# Altium footprint library PCB_PCB恒温加热台 copy_2022-02-27.PcbLib: 26 footprints (part 1 of 2)
Each footprint in its own frame and in the unit in brackets; x right, y up, seen from the top. Pads: shape width x height; smd on the part's side, far side on the other; paste and mask are expansions set on the pad; w line width, h text height; cw(c..) or ccw(c..) is an arc to the next point about the centre after c.
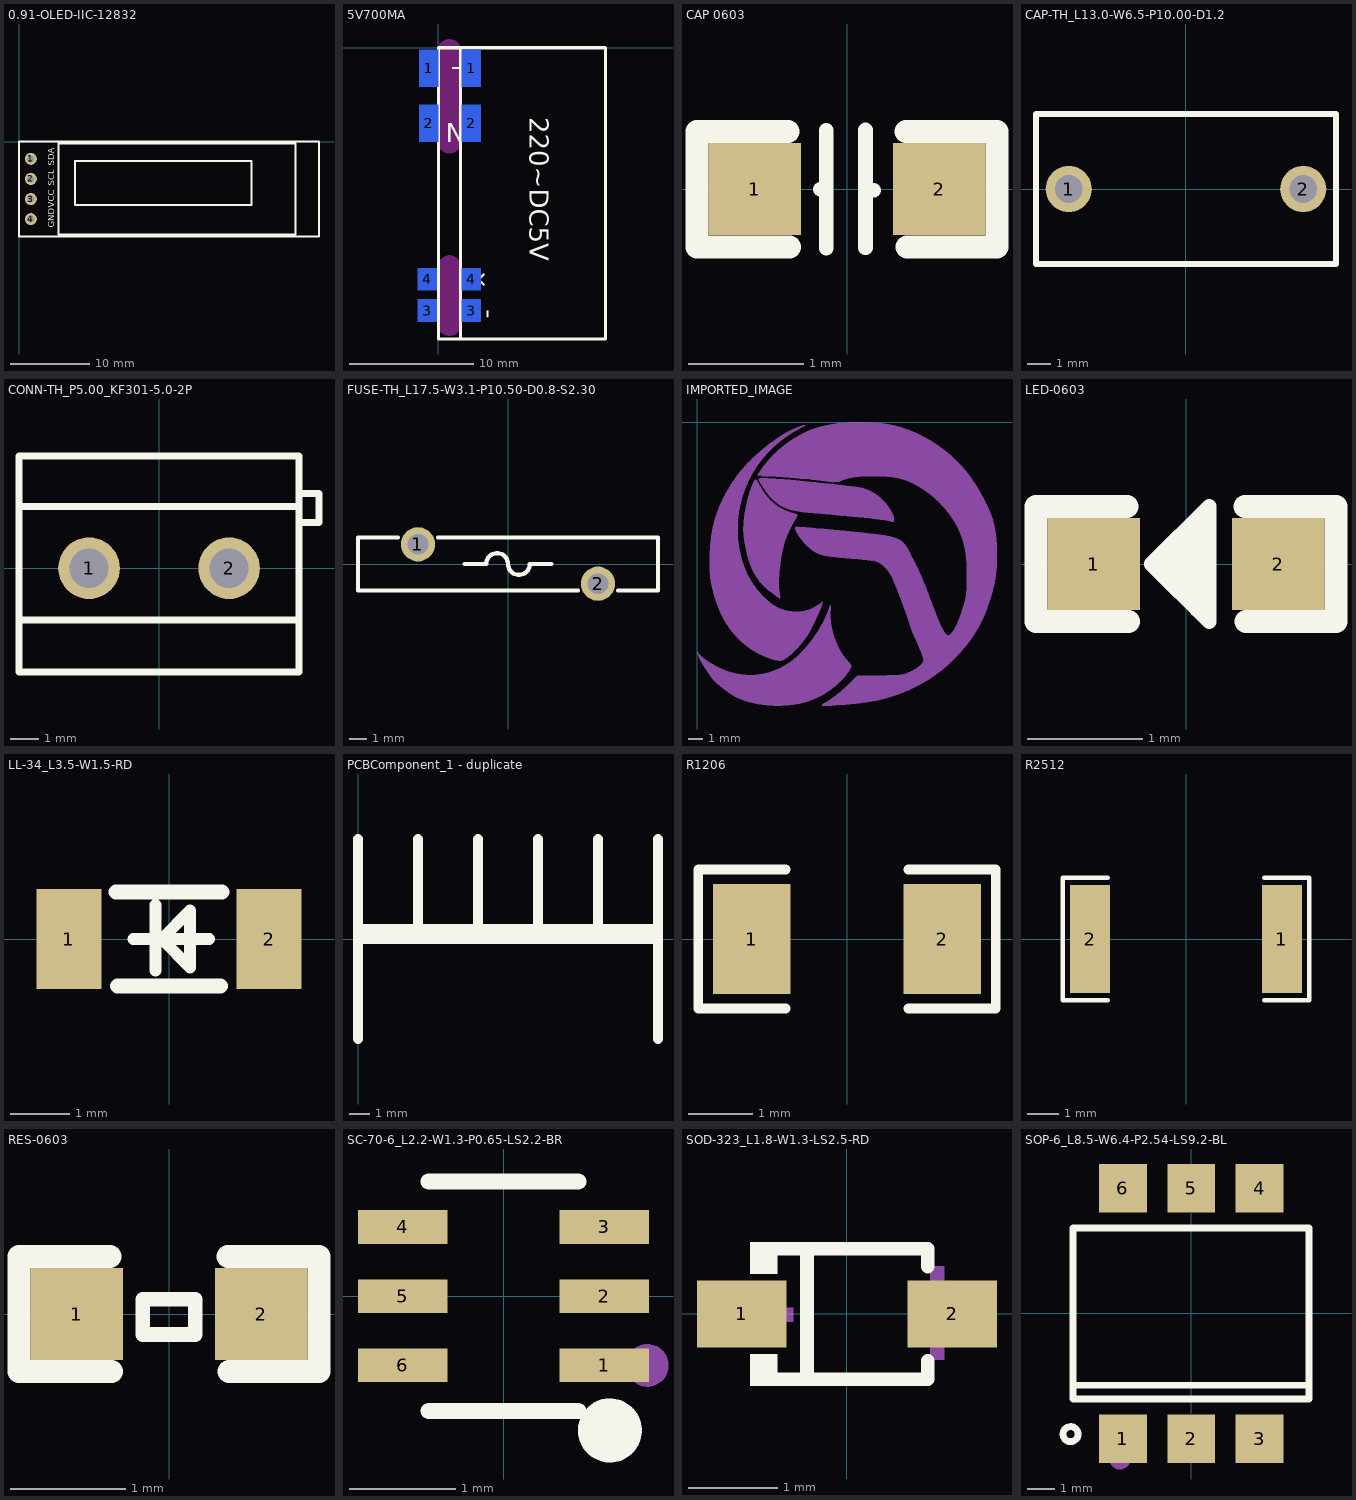
[diagram p0: the footprints below, top view; thin cyan lines are the x and y axes]

## 0.91-OLED-IIC-12832 [mil]
pads (4):
  round 60 hole 36: 1(59.05,-86.22) 2(59.05,-186.22) 3(59.05,-286.22) 4(59.05,-386.22)
Top Overlay:
  lines w10: 0,-472.44 1496.06,-472.44 1496.06,0 0,0 0,-472.44 ; 196.85,-462.6 1377.95,-462.6 1377.95,-9.84 196.85,-9.84 196.85,-462.6 ; 279.53,-315.36 1160.63,-315.36 1160.63,-95.67 279.53,-95.67 279.53,-315.36
  text "SDA" at 175.75,-120 h31.5
  text "SCL" at 175.75,-220 h31.5
  text "VCC" at 175.75,-330 h31.5
  text "GND" at 175.75,-430 h31.5

## 5V700MA [mil]
pads (8):
  rect 60x118.11 smd far side: 1(-30,-65) 1(105,-65) 2(-30,-240) 2(105,-240)
  rect 60x70.87 smd far side: 3(-35,-835) 3(105,-835) 4(-35,-735) 4(105,-735)
Top Overlay:
  lines w10: 0,-925.08 0,0 ; 0,-925.08 531.5,-925.08 531.5,0 0,0 ; 0,-925.08 0,0 ; 0,-925.08 70.87,-925.08 70.87,0 0,0
  text "220~DC5V" at 290.08,-220 h59.84
  text "-" at 179.92,-860 h59.84
  text "+" at 171.16,-743.84 h59.84
  text "N" at 85,-240.08 h59.84
  text "L" at 90,-62.58 h59.84
Keep-Out Layer:
  board cut-out: -0.43,-880 -0.43,-695 -0.43,-690.34 1.98,-681.32 6.65,-673.24 13.24,-666.65 21.32,-661.98 30.34,-659.57 39.66,-659.57 48.68,-661.98 56.76,-666.65 63.35,-673.24 68.02,-681.32 70.43,-690.34 70.43,-695 70.43,-880 70.43,-884.66 68.02,-893.68 63.35,-901.76 56.76,-908.35 48.68,-913.02 39.66,-915.43 30.34,-915.43 21.32,-913.02 13.24,-908.35 6.65,-901.76 1.98,-893.68 -0.43,-884.66 -0.43,-880
  board cut-out: 70.43,-7.5 70.43,-300 70.43,-304.66 68.02,-313.68 63.35,-321.76 56.76,-328.35 48.68,-333.02 39.66,-335.43 30.34,-335.43 21.32,-333.02 13.24,-328.35 6.65,-321.76 1.98,-313.68 -0.43,-304.66 -0.43,-300 -0.43,-7.5 -0.43,-2.84 1.98,6.18 6.65,14.26 13.24,20.85 21.32,25.52 30.34,27.93 39.66,27.93 48.68,25.52 56.76,20.85 63.35,14.26 68.02,6.18 70.43,-2.84 70.43,-7.5

## CAP 0603 [mm]
pads (2):
  rect 0.8x0.8 smd: 1(-0.8,0) 2(0.8,0)
Top Overlay:
  lines w0.127: -1.3,-0.003 -1.3,0.011 ; -0.232,-0.003 -0.18,-0.003 ; -0.18,-0.51 -0.18,0.51 ; 0.16,-0.508 0.16,0.512 ; 0.16,-0.009 0.232,-0.009 ; 1.3,-0.009 1.3,-0.006
  lines w0.2: -0.51,0.5 -1.3,0.5 -1.3,-0.5 -0.5,-0.5 ; 0.51,0.5 1.3,0.5 1.3,-0.5 0.53,-0.5 0.52,-0.5

## CAP-TH_L13.0-W6.5-P10.00-D1.2 [mm]
pads (2):
  round 2 hole 1.2: 1(-5.08,0) 2(5.08,0)
Top Overlay:
  lines w0.254: -6.5,-3.25 6.5,-3.25 6.5,3.25 5.141,3.249 -6.5,3.25 -6.5,-3.25

## CONN-TH_P5.00_KF301-5.0-2P [mm]
pads (2):
  round 2.2 hole 1.4: 1(-2.5,0) 2(2.5,0)
Top Overlay:
  lines w0.254: -5,-1.845 5,-1.845 ; -5,2.201 5,2.201 ; 5.08,1.626 5.708,1.626 5.708,2.667 5.08,2.667 ; -5,-3.7 5,-3.7 5,4 -5,4 -5,-3.7

## FUSE-TH_L17.5-W3.1-P10.50-D0.8-S2.30 [mm]
pads (2):
  round 2 hole 1.2: 1(-5.25,1.15) 2(5.25,-1.15)
Top Overlay:
  lines w0.254: -6.414,1.55 -8.75,1.55 -8.75,-1.55 4.086,-1.55 ; -4.086,1.55 8.75,1.55 8.75,-1.55 6.414,-1.55 ; -2.54,0 -1.27,0 cw(c-0.635,0) 0,0 ccw(c0.635,0) 1.27,0 2.54,0

## IMPORTED_IMAGE [mm]
Bottom Overlay:
  drawing of 5 lines, arcs and shapes, not listed

## LED-0603 [mm]
pads (2):
  rect 0.8x0.8 smd: 1(-0.8,0) 2(0.8,0)
Top Overlay:
  lines w0.127: -0.208,0.092 -0.202,-0.098 ; -0.11,-0.148 -0.11,0.19 ; -0.009,-0.291 -0.009,0.268 ; 0.096,-0.396 0.1,-0.391 0.1,0.3 ; -0.3,0 0.2,-0.5 0.2,0.5 -0.3,0
  lines w0.2: -0.51,0.5 -1.3,0.5 -1.3,-0.5 -0.5,-0.5 ; 0.51,0.5 1.3,0.5 1.3,-0.5 0.53,-0.5 0.52,-0.5

## LL-34_L3.5-W1.5-RD [mm]
pads (2):
  rect 1.1x1.7 smd: 1(-1.7,0) 2(1.7,0)
Top Overlay:
  lines w0.2: -0.61,0 0.686,0 ; -0.229,-0.533 -0.229,0.584 ; -0.127,0 0.356,0.483 0.356,-0.483 -0.102,-0.025
  lines w0.254: -0.9,0.8 0.9,0.8 ; -0.878,-0.8 0.878,-0.8
Mechanical 15:
  region: -1.365,-0.096 -2.026,-0.096 -2.026,0.082 -1.365,0.082
  region: 2.035,-0.096 1.374,-0.096 1.374,0.082 2.035,0.082
  region: 1.604,-0.335 1.604,0.326 1.782,0.326 1.782,-0.335

## PCBComponent_1 - duplicate [mm]
Top Overlay:
  lines w0.5: 0,-5.001 0,5.001 ; 0,0 14.999,0 ; 0,0.5 14.999,0.5 ; 3,0 3,5.001 ; 5.999,0.001 5.999,5.003 ; 8.999,0 8.999,5.001 ; 11.999,0 11.999,5.001 ; 14.999,-5.001 14.999,5.001

## R1206 [mm]
pads (2):
  rect 1.208x1.701 smd: 1(-1.479,0) 2(1.479,0)
Top Overlay:
  lines w0.152: -0.951,-1.079 -2.311,-1.079 -2.311,1.079 -0.951,1.079 ; 0.951,-1.079 2.311,-1.079 2.311,1.079 0.951,1.079
Top Paste:
  region: -0.875,-0.75 -0.875,-0.389 -0.975,-0.289 -1.186,-0.289 -1.286,-0.189 -1.286,0.189 -1.186,0.289 -0.975,0.289 -0.875,0.389 -0.875,0.75 -0.975,0.85 -1.983,0.85 -2.083,0.75 -2.083,-0.75 -1.983,-0.85 -0.975,-0.85
  region: 0.875,-0.75 0.875,-0.389 0.975,-0.289 1.186,-0.289 1.286,-0.189 1.286,0.189 1.186,0.289 0.975,0.289 0.875,0.389 0.875,0.75 0.975,0.85 1.983,0.85 2.083,0.75 2.083,-0.75 1.983,-0.85 0.975,-0.85

## R2512 [mm]
pads (2):
  rect 1.283x3.456 smd: 1(3.066,0) 2(-3.066,0)
Top Overlay:
  lines w0.152: -2.501,-1.957 -3.936,-1.957 -3.936,1.957 -2.501,1.957 ; 2.501,-1.957 3.936,-1.957 3.936,1.957 2.501,1.957
Top Paste:
  region: 2.425,1.628 2.425,0.688 2.525,0.588 2.761,0.588 2.861,0.488 2.861,-0.488 2.761,-0.588 2.525,-0.588 2.425,-0.688 2.425,-1.628 2.525,-1.728 3.608,-1.728 3.708,-1.628 3.708,1.628 3.608,1.728 2.525,1.728
  region: -2.425,1.628 -2.425,0.688 -2.525,0.588 -2.761,0.588 -2.861,0.488 -2.861,-0.488 -2.761,-0.588 -2.525,-0.588 -2.425,-0.688 -2.425,-1.628 -2.525,-1.728 -3.608,-1.728 -3.708,-1.628 -3.708,1.628 -3.608,1.728 -2.525,1.728

## RES-0603 [mm]
pads (2):
  rect 0.8x0.8 smd: 1(-0.8,0) 2(0.8,0)
Top Overlay:
  lines w0.127: -0.229,0.102 -0.229,-0.178 0.229,-0.178 0.229,0.127 -0.229,0.127
  lines w0.2: -0.51,0.5 -1.3,0.5 -1.3,-0.5 -0.5,-0.5 ; 0.51,0.5 1.3,0.5 1.3,-0.5 0.53,-0.5 0.52,-0.5

## SC-70-6_L2.2-W1.3-P0.65-LS2.2-BR [mm]
pads (6):
  rect 0.841x0.315 smd: 1(0.945,-0.65) 2(0.945,0) 3(0.945,0.65) 4(-0.945,0.65) 5(-0.945,0) 6(-0.945,-0.65)
Top Overlay:
  circle w0.3: c0.998,-1.26 r0.15
  lines w0.152: -0.701,-1.076 0.701,-1.076 ; -0.701,1.076 0.701,1.076
Mechanical 15:
  circle w0.2: c1.35,-0.65 r0.1

## SOD-323_L1.8-W1.3-LS2.5-RD [mm]
pads (2):
  rect 1x0.75 smd: 1(-1.173,0) 2(1.173,0)
Top Overlay:
  region: -0.775,-0.802 -0.775,-0.45 -1.08,-0.45 -1.08,-0.802
  region: -0.775,0.802 -0.775,0.45 -1.08,0.45 -1.08,0.802
  lines w0.152: -0.851,-0.726 0.901,-0.726 0.901,-0.52 ; -0.851,0.726 0.901,0.726 0.901,0.53 ; -0.447,-0.726 -0.447,0.726
Mechanical 15:
  region: 1.083,0.53 1.083,-0.51 0.927,-0.51 0.927,0.53
  region: 1.315,0.09 1.315,-0.066 0.691,-0.066 0.691,0.09
  region: -1.225,0.07 -1.225,-0.086 -0.601,-0.086 -0.601,0.07

## SOP-6_L8.5-W6.4-P2.54-LS9.2-BL [mm]
pads (6):
  rect 1.781x1.8 smd: 1(-2.54,-4.648) 2(0,-4.648) 3(2.54,-4.648) 4(2.54,4.648) 5(0,4.648) 6(-2.54,4.648)
Top Overlay:
  circle w0.254: c-4.48,-4.48 r0.279
  lines w0.254: -4.293,-2.667 4.369,-2.667 ; 4.369,-2.667 4.369,-3.175 -4.394,-3.175 -4.394,3.175 4.369,3.175 4.369,-2.667
Mechanical 15:
  circle w0.4: c-2.646,-5.389 r0.2